# Altium footprint library RESISTOR_0805.PcbLib: 1 footprints
Each footprint in its own frame and in the unit in brackets; x right, y up, seen from the top. Pads: shape width x height; smd on the part's side, far side on the other; paste and mask are expansions set on the pad; w line width, h text height; cw(c..) or ccw(c..) is an arc to the next point about the centre after c.
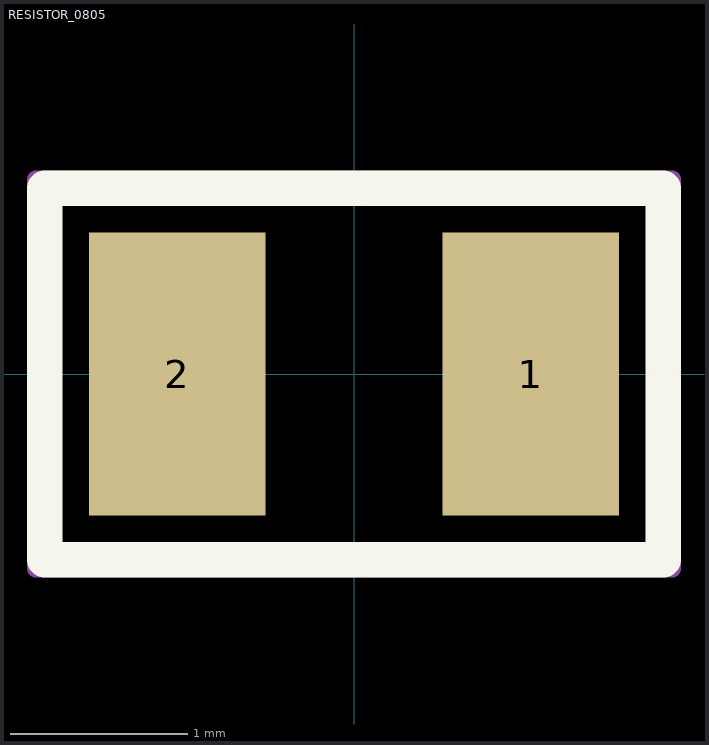
[diagram p0: the footprint, top view; thin cyan lines are the x and y axes]

## RESISTOR_0805 [mm]
pads (2):
  rect 1x1.6 smd: 1(1,0) 2(-1,0)
Top Overlay:
  lines w0.2: -1.75,-1.05 1.75,-1.05 1.75,1.05 -1.75,1.05 -1.75,-1.05
Top Courtyard:
  lines w0.1: -1.8,-1.1 1.8,-1.1 1.8,1.1 -1.8,1.1 -1.8,-1.1
3D body "WRIS-KSKE_0805.stp": height 0.6, standoff 0, extent -1,-0.625 1,0.625